# Altium schematic symbol library TrashTrack_SCH_LIB.SchLib: 22 symbols
Pins are listed as number, name and electrical type; pins without a type are passive.

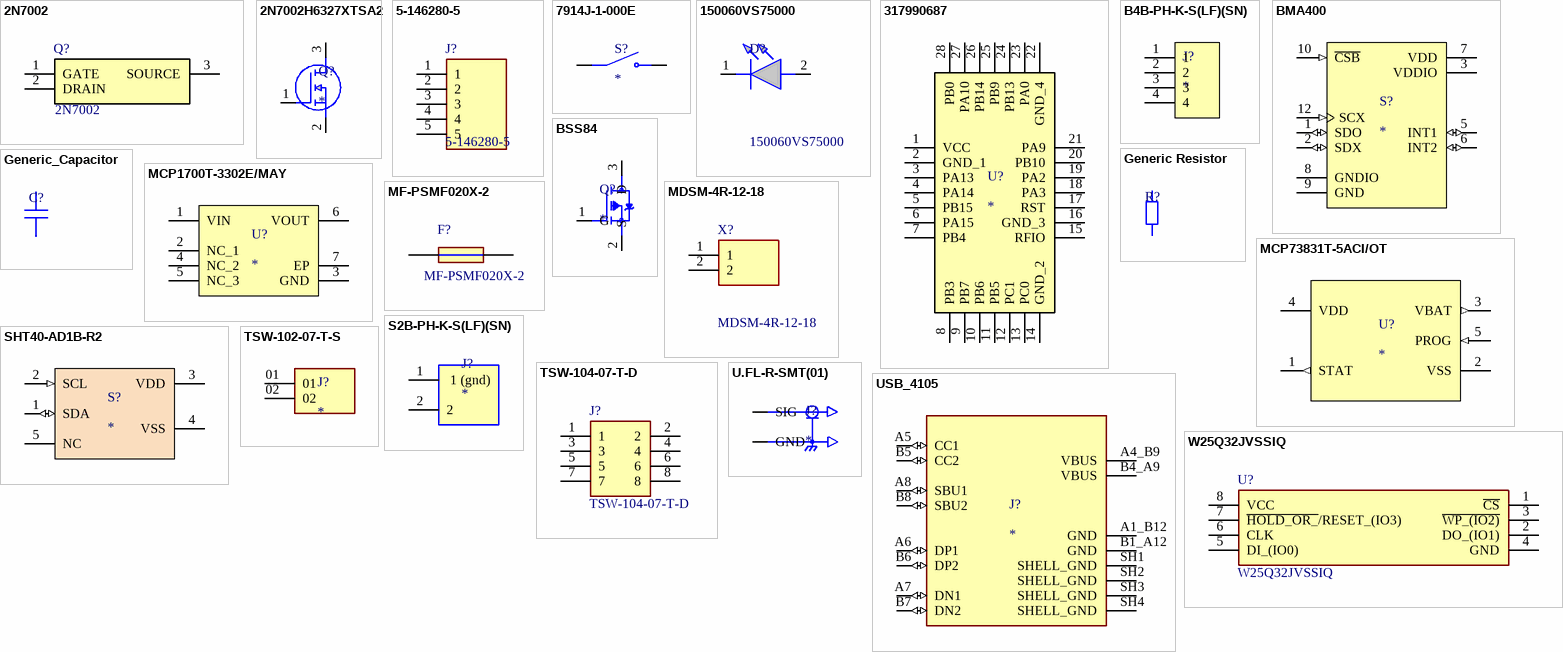
[diagram p0: symbols 2N7002 to W25Q32JVSSIQ]

## 2N7002
designator Q?
2N7002, N-channel MOSFET Transistor, 0.30 A 60 V, 3-Pin PG-SOT-23; Manufacturer_Name: Infineon; Geometry.Height: 1.1mm; Manufacturer_Part_Number: 2N7002; Mouser Part Number: N/A; Mouser Price/Stock: https://www.mouser.co.uk/ProductDetail/Infineon-Technologies/2N7002?qs=bAKSY%2FctAC7%252BW3Ad%252B5U1pw%3D%3D; Arrow Part Number: *; Arrow Price/Stock: *; Datasheet Link: https://www.infineon.com/dgdl/Infineon-2N7002-DS-v02_04-en.pdf?fileId=db3a304319bc939a0119c2a9461e79e6
footprint SOT95P260X110-3N
pins: 1 GATE, 2 DRAIN, 3 SOURCE

## 2N7002H6327XTSA2
designator Q?
Manufacturer Part Number: 2N7002H6327XTSA2; Manufacturer: Infineon
pins: 1 G, 2 S, 3 D

## 5-146280-5
designator J?
TE CONNECTIVITY - 5-146280-5 - CONNECTOR, BOARD-TO-BOARD 07AH5929; Geometry.Height: 8.21mm; Manufacturer_Name: TE Connectivity; Manufacturer_Part_Number: 5-146280-5; Mouser Part Number: 571-5-146280-5; Mouser Price/Stock: https://www.mouser.co.uk/ProductDetail/TE-Connectivity/5-146280-5?qs=bwpFY26eRVfu6g6nYAoViA%3D%3D; Arrow Part Number: 5-146280-5; Arrow Price/Stock: https://www.arrow.com/en/products/5-146280-5/te-connectivity?utm_currency=USD&region=nac; Datasheet Link: https://www.te.com/commerce/DocumentDelivery/DDEController?Action=showdoc&DocId=Customer+Drawing%7F146280%7FH2%7Fpdf%7FEnglish%7FENG_CD_146280_H2.pdf%7F5-146280-5
footprint HDRV5W67P0X254_1X5_1229X234X821P
pins: 1, 2, 3, 4, 5

## 7914J-1-000E
designator S?
Switch Tactile N.O. SPST Round Button J-Hook 0.1A 16VAC 16VDC 100000Cycles 2.94N SMD T/R; MF: Bourns; MP: 7914J-1-000E.; SnapEDA_Link: https://www.snapeda.com/parts/7914J-1-000E./Bourns/view-part/?ref=snap; Package: None; Value: *; Check_prices: https://www.snapeda.com/parts/7914J-1-000E./Bourns/view-part/?ref=eda
footprint SW_7914J-1-000E
pins: 1 COM, 2 COM, 3 NO, 4 NO

## 150060VS75000
designator D?
WL-SMCW SMT Mono-Color Chip LED Waterclear 0603, Bright Green, Typ.(@20mA): 570nm, 40mcd, 2.0V, 140 AlInGaP; Manufacturer_Name: Wurth Elektronik; Geometry.Height: 0.7mm; Manufacturer_Part_Number: 150060VS75000; Mouser Part Number: 710-150060VS75000; Mouser Price/Stock: https://www.mouser.co.uk/ProductDetail/Wurth-Elektronik/150060VS75000?qs=LlUlMxKIyB1Q1Bi5mQ%2FKLw%3D%3D; Arrow Part Number: *; Arrow Price/Stock: *; Datasheet Link: https://www.we-online.com/catalog/datasheet/150060VS75000.pdf
footprint LEDC1608X70N
pins: 1 K, 2 A

## 317990687
designator U?
pins: 1 VCC, 2 GND_1, 3 PA13, 4 PA14, 5 PB15, 6 PA15, 7 PB4, 8 PB3, 9 PB7, 10 PB6, 11 PB5, 12 PC1, 13 PC0, 14 GND_2, 15 RFIO, 16 GND_3, 17 RST, 18 PA3, 19 PA2, 20 PB10, 21 PA9, 22 GND_4, 23 PA0, 24 PB13, 25 PB9, 26 PB14, 27 PA10, 28 PB0

## B4B-PH-K-S(LF)(SN)
designator J?
pins: 1, 2, 3, 4

## BMA400
designator S?
pins: 1 SDO (io), 2 SDX (io), 3 VDDIO (power), 5 INT1 (io), 6 INT2 (io), 7 VDD (power), 8 GNDIO (power), 9 GND (power), 10 ~{CSB} (in), 12 SCX (in)

## BSS84
designator Q?
P-Channel 50 V 130mA (Ta) 225mW (Ta) Surface Mount SOT-23-3 (TO-236); MF: onsemi; MP: BSS84; SnapEDA_Link: https://www.snapeda.com/parts/BSS84/Onsemi/view-part/?ref=snap; Package: None; Value: *; Check_prices: https://www.snapeda.com/parts/BSS84/Onsemi/view-part/?ref=eda
footprint SOT95P240X120-3N
pins: 1 G, 2 S, 3 D

## Generic Resistor
designator R?
pins: 1  , 2

## Generic_Capacitor
designator C?  (value not drawn)
pins: 1, 2

## MCP1700T-3302E/MAY
designator U?
pins: 1 VIN, 2 NC_1, 3 GND, 4 NC_2, 5 NC_3, 6 VOUT, 7 EP

## MCP73831T-5ACI/OT
designator U?
pins: 1 STAT (out), 2 VSS (power), 3 VBAT (out), 4 VDD (power), 5 PROG (in)

## MDSM-4R-12-18
designator X?
LITTELFUSE - MDSM-4R-12-18 - REED SW, SPST-NO, 0.5A, 200VDC, SMD; Geometry.Height: 2.84mm; Manufacturer_Name: LITTELFUSE; Manufacturer_Part_Number: MDSM-4R-12-18; Mouser Part Number: 934-MDSM-4R12-18; Mouser Price/Stock: https://www.mouser.co.uk/ProductDetail/Littelfuse/MDSM-4R-12-18?qs=nyo4TFax6NeuFOer0%2FvGlw%3D%3D; Arrow Part Number: MDSM-4R-12-18; Arrow Price/Stock: https://www.arrow.com/en/products/mdsm-4r-12-18/littelfuse?region=europe; Datasheet Link: https://media.digikey.com/pdf/DataSheets/HamlinPDFs/MDSM-4R.pdf
footprint MDSM4R1218
pins: 1, 2

## MF-PSMF020X-2
designator F?
Manufacturer_Name: Bourns; Geometry.Height: 0.85mm; Manufacturer_Part_Number: MF-PSMF020X-2; Mouser Part Number: 652-MF-PSMF020X-2; Mouser Price/Stock: https://www.mouser.co.uk/ProductDetail/Bourns/MF-PSMF020X-2?qs=B2dI1vFk2x%2FnZ%252B%252BDoGvxDQ%3D%3D; Arrow Part Number: MF-PSMF020X-2; Arrow Price/Stock: https://www.arrow.com/en/products/mf-psmf020x-2/bourns?utm_currency=USD&region=europe; Datasheet Link: https://www.bourns.com/pdfs/mfpsmf.pdf
footprint FUSC2214X85N (Footprint not found)
pins: 1, 2

## S2B-PH-K-S(LF)(SN)
designator J?
pins: 1  1 (gnd), 2

## SHT40-AD1B-R2
designator S?
pins: 1 SDA (io), 2 SCL (in), 3 VDD (power), 4 VSS (power), 5 NC

## TSW-102-07-T-S
designator J?
<a href="https://pricing.snapeda.com/parts/TSW-102-07-T-S/Samtec/view-part?ref=eda">Check availability</a>; MF: {'manufacturer': u'Samtec'}; Package: None; Price: None; Value: *; MP: TSW-102-07-T-S; Availability: Unavailable
footprint SAMTEC_TSW-102-07-T-S
pins: 01, 02

## TSW-104-07-T-D
designator J?
8 Position, Classic PCB Header Strips, 0.100&quot; pitch; Manufacturer_Name: SAMTEC; Manufacturer_Part_Number: TSW-104-07-T-D; Mouser Part Number: 200-TSW10407TD; Mouser Price/Stock: https://www.mouser.co.uk/ProductDetail/Samtec/TSW-104-07-T-D?qs=hzq9O0YpnZtBZCcLzm8dag%3D%3D; Arrow Part Number: TSW-104-07-T-D; Arrow Price/Stock: https://www.arrow.com/en/products/tsw-104-07-t-d/samtec?utm_currency=USD&region=europe; Datasheet Link: http://suddendocs.samtec.com/prints/tsw-xxx-xx-xxx-x-xx-xxx-mkt.pdf
footprint TSW-104-XX-YY-D
pins: 1, 2, 3, 4, 5, 6, 7, 8

## U.FL-R-SMT(01)
designator J?
MP: U.FL-R-SMT(01); MF: Hirose; Check_prices: https://www.snapeda.com/parts/U.FL-R-SMT(01)/Hirose+Electric+Co+Ltd/view-part/?ref=eda; Value: *; Availability: In Stock; Price: None; Package: None; SnapEDA_Link: https://www.snapeda.com/parts/U.FL-R-SMT(01)/Hirose+Electric+Co+Ltd/view-part/?ref=snap; Purchase-URL: https://pricing.snapeda.com/search/part/U.FL-R-SMT(01)/?ref=eda
footprint HRS_U.FL-R-SMT(01)
pins: 1 GND, 2 GND, 3 SIG

## USB_4105
designator J?
footprint GCT_USB4105-GF-A
pins: A1_B12 GND (power), A4_B9 VBUS (power), A5 CC1 (io), A6 DP1 (io), A7 DN1 (io), A8 SBU1 (io), B1_A12 GND (power), B4_A9 VBUS (power), B5 CC2 (io), B6 DP2 (io), B7 DN2 (io), B8 SBU2 (io), SH1 SHELL_GND (power), SH2 SHELL_GND (power), SH3 SHELL_GND (power), SH4 SHELL_GND (power)

## W25Q32JVSSIQ
designator U?
Manufacturer_Name: Winbond; Geometry.Height: 2.16mm; Manufacturer_Part_Number: W25Q32JVSSIQ; Mouser Part Number: 454-W25Q32JVSSIQ; Mouser Price/Stock: https://www.mouser.co.uk/ProductDetail/Winbond/W25Q32JVSSIQ?qs=qSfuJ%252Bfl%2Fd4PGZSN0WxfCA%3D%3D; Arrow Part Number: W25Q32JVSSIQ; Arrow Price/Stock: https://www.arrow.com/en/products/w25q32jvssiq/winbond-electronics?utm_currency=USD&region=nac; Datasheet Link: https://www.winbond.com/hq/search-resource-file.jsp?partNo=W25Q32JVSSIQ&type=datasheet
footprint SOIC127P790X216-8N
pins: 1 ~{CS}, 2 DO_(IO1), 3 ~{WP_(IO2)}, 4 GND, 5 DI_(IO0), 6 CLK, 7 ~{HOLD_OR_}/RESET_(IO3), 8 VCC